# Altium footprint library SOD323_Diode.PcbLib: 1 footprints
Each footprint in its own frame and in the unit in brackets; x right, y up, seen from the top. Pads: shape width x height; smd on the part's side, far side on the other; paste and mask are expansions set on the pad; w line width, h text height; cw(c..) or ccw(c..) is an arc to the next point about the centre after c.
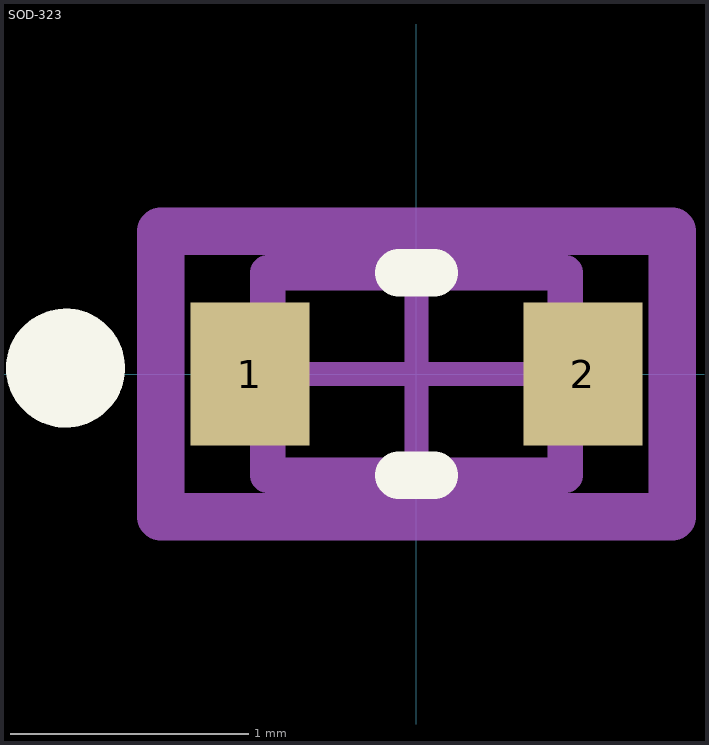
[diagram p0: the footprint, top view; thin cyan lines are the x and y axes]

## SOD-323 [mm]
pads (2):
  rect 0.5x0.6 smd paste-1000 mask+0: 1(-0.7,0) 2(0.7,0)
Top Overlay:
  circle w0.25: c-1.475,0.025 r0.125
  lines w0.2: -0.075,-0.425 0.075,-0.425 ; -0.075,0.425 0.075,0.425
Top Paste:
  rectangle: -0.9,-0.25 -0.5,0.25
  rectangle: 0.5,-0.25 0.9,0.25
Mechanical 10:
  lines w0.2: -1.075,-0.6 1.075,-0.6 1.075,0.6 -1.075,0.6 -1.075,-0.6
  text ".Designator" at 0,0 h1
Mechanical 12:
  lines w0.15: -0.625,-0.425 0.625,-0.425 0.625,0.425 -0.625,0.425 -0.625,-0.425
Mechanical 15:
  lines w0.1: -0.5,0 0.5,0 ; 0,-0.5 0,0.5
  lines w0.2: -1.075,-0.6 1.075,-0.6 1.075,0.6 -1.075,0.6 -1.075,-0.6
3D body "Diode_Nexperia_USA_Inc._PESD5Z3.3,115_eec.STEP": height 0.25, standoff 0, extent -1.075,-0.6 1.075,0.6